# Altium schematic symbol library AT86RF230.Schlib: 1 symbol
Pins are listed as number, name and electrical type; pins without a type are passive.

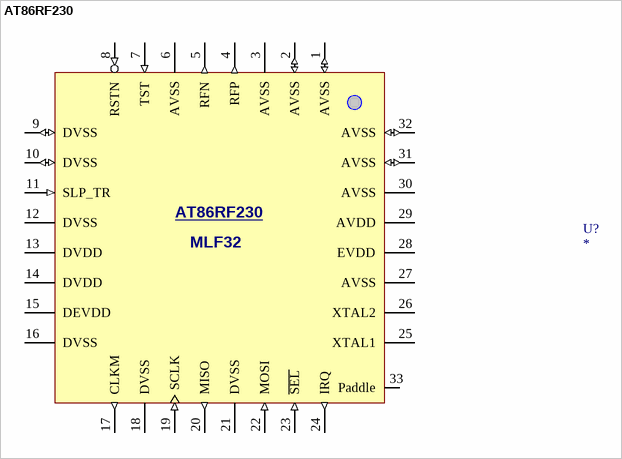
[diagram p0: symbol AT86RF230]

## AT86RF230
designator U?
802.15.4 2.4GHz Radio Transceiver
footprint MLF-32 (MLF-32 solder foot print)
pins: 1 AVSS (io), 2 AVSS (io), 3 AVSS (power), 4 RFP (out), 5 RFN (out), 6 AVSS (power), 7 TST (in), 8 RSTN (in), 9 DVSS (io), 10 DVSS (io), 11 SLP_TR (in), 12 DVSS (power), 13 DVDD (power), 14 DVDD (power), 15 DEVDD (power), 16 DVSS (power), 17 CLKM (out), 18 DVSS (power), 19 SCLK (in), 20 MISO (out), 21 DVSS (power), 22 MOSI (in), 23 ~{SEL} (in), 24 IRQ (out), 25 XTAL1, 26 XTAL2, 27 AVSS (power), 28 EVDD (power), 29 AVDD (power), 30 AVSS (power), 31 AVSS (io), 32 AVSS (io), 33 Paddle "not connected"
text: MLF32